# EAGLE library part 72E- (library inductor-neosid)
FILTER dual helix bandpass filter, type E
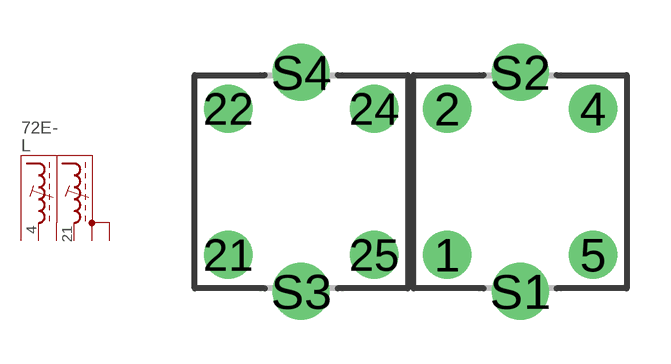
[diagram p14: symbol with the pads of 71EX2; footprint 71EX2]

Designator prefix L

## 72E-4-21  [71EX2]
4  IN  pas
21  OUT  pas
S1  S1  pas
S2  S2  pas
S3  S3  pas
S4  S4  pas

## 72E-4-22  [71EX2]
4  IN  pas
22  OUT  pas
S1  S1  pas
S2  S2  pas
S3  S3  pas
S4  S4  pas

## 72E-5-22  [71EX2]
5  IN  pas
22  OUT  pas
S1  S1  pas
S2  S2  pas
S3  S3  pas
S4  S4  pas

## 72E-4-24  [71EX2]
4  IN  pas
24  OUT  pas
S1  S1  pas
S2  S2  pas
S3  S3  pas
S4  S4  pas

## 72E-1-24  [71EX2]
1  IN  pas
24  OUT  pas
S1  S1  pas
S2  S2  pas
S3  S3  pas
S4  S4  pas

## 72E-1-22  [71EX2]
1  IN  pas
22  OUT  pas
S1  S1  pas
S2  S2  pas
S3  S3  pas
S4  S4  pas

## 72E-2-22  [71EX2]
2  IN  pas
22  OUT  pas
S1  S1  pas
S2  S2  pas
S3  S3  pas
S4  S4  pas

## 72E-1-21  [71EX2]
1  IN  pas
21  OUT  pas
S1  S1  pas
S2  S2  pas
S3  S3  pas
S4  S4  pas

## Footprint 71EX2 (pad centres in mm)
DUAL RF COIL ASSEMBLY 1 winding, 4 pads, grid 2.5 mm
drill 1.1 round: 1 1.25,-2.5; 2 1.25,2.5; 4 6.25,2.5; 5 6.25,-2.5; 21 -6.25,-2.5; 22 -6.25,2.5; 24 -1.25,2.5; 25 -1.25,-2.5
drill 1.3 round: S1 3.75,-3.75; S2 3.75,3.75; S3 -3.75,-3.75; S4 -3.75,3.75